# Altium footprint library SYSPCB_03.PCBLIB: 98 footprints (part 4 of 7)
Each footprint in its own frame and in the unit in brackets; x right, y up, seen from the top. Pads: shape width x height; smd on the part's side, far side on the other; paste and mask are expansions set on the pad; w line width, h text height; cw(c..) or ccw(c..) is an arc to the next point about the centre after c.
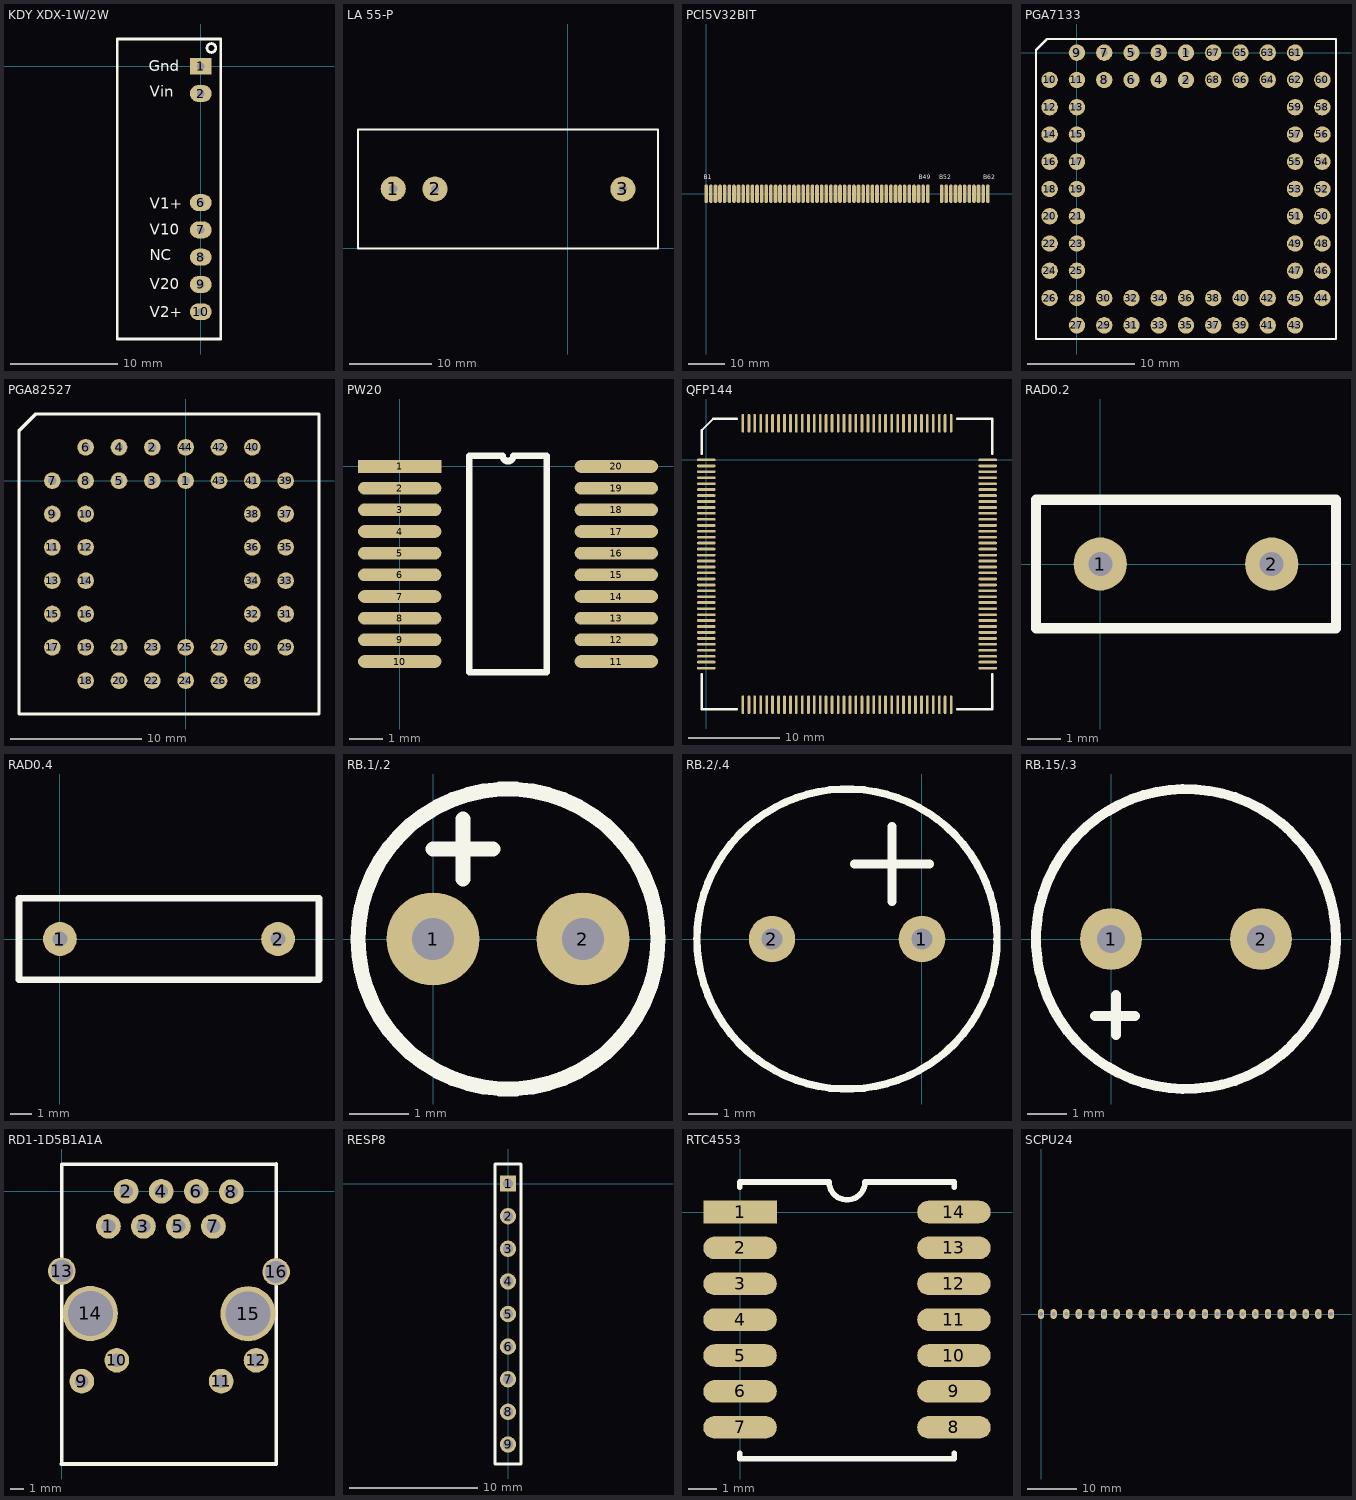
[diagram p3: the footprints below, top view; thin cyan lines are the x and y axes]

## KDY XDX-1W/2W [mil]
pads (7):
  rect 80x62 hole 28: 1(0,0)
  oval 80x62 hole 28: 2(0,-100) 6(0,-500) 7(0,-600) 8(0,-700) 9(0,-800) 10(0,-900)
TopOverlay:
  circle w10: c38.88,67 r16.12
  lines w10: 73,98 73,-1000 -306,-1000 -306,100 73,100
  text "Gnd" at -190,-18 h40
  text "Vin" at -187,-112 h40
  text "V1+" at -187,-522 h40
  text "V10" at -187,-617 h40
  text "NC" at -187,-712 h40
  text "V20" at -187,-817 h40
  text "V2+" at -187,-920 h40

## LA 55-P [mil] "LEM"
height 1070.87
pads (3):
  round 120 hole 40: 1(-835,285.98) 2(-635,285) 3(264.69,285)
TopOverlay:
  lines w10: 433.07,568.9 433.07,0 -1003.94,0 -1003.94,569.88 433.07,569.88

## PCI5V32BIT [mil]
pads (120):
  round 0 smd far side: A1(0,0) A2(50,0) A3(100,0) A4(150,0) A5(200,0) A6(250,0) A7(300,0) A8(350,0) A9(400,0) A10(450,0) A11(500,0) A12(550,0) A13(600,0) A14(650,0) A15(700,0) A16(750,0) A17(800,0) A18(850,0) A19(900,0) A20(950,0) A21(1000,0) A22(1050,0) A23(1100,0) A24(1150,0) A25(1200,0) A26(1250,0) A27(1300,0) A28(1350,0) A29(1400,0) A30(1450,0) A31(1500,0) A32(1550,0) A33(1600,0) A34(1650,0) A35(1700,0) A36(1750,0) A37(1800,0) A38(1850,0) A39(1900,0) A40(1950,0) A41(2000,0) A42(2050,0) A43(2100,0) A44(2150,0) A45(2200,0) A46(2250,0) A47(2300,0) A48(2350,0) A49(2400,0) A52(2550,0) A53(2600,0) A54(2650,0) A55(2700,0) A56(2750,0) A57(2800,0) A58(2850,0) A59(2900,0) A60(2950,0) A61(3000,0) A62(3050,0)
  oval 40x200 smd: B1(0,0) B2(50,0) B3(100,0) B4(150,0) B5(200,0) B6(250,0) B7(300,0) B8(350,0) B9(400,0) B10(450,0) B11(500,0) B12(550,0) B13(600,0) B14(650,0) B15(700,0) B16(750,0) B17(800,0) B18(850,0) B19(900,0) B20(950,0) B21(1000,0) B22(1050,0) B23(1100,0) B24(1150,0) B25(1200,0) B26(1250,0) B27(1300,0) B28(1350,0) B29(1400,0) B30(1450,0) B31(1500,0) B32(1550,0) B33(1600,0) B34(1650,0) B35(1700,0) B36(1750,0) B37(1800,0) B38(1850,0) B39(1900,0) B40(1950,0) B41(2000,0) B42(2050,0) B43(2100,0) B44(2150,0) B45(2200,0) B46(2250,0) B47(2300,0) B48(2350,0) B49(2400,0) B52(2550,0) B53(2600,0) B54(2650,0) B55(2700,0) B56(2750,0) B57(2800,0) B58(2850,0) B59(2900,0) B60(2950,0) B61(3000,0) B62(3050,0)
TopOverlay:
  text "B1" at -25,155 h48
  text "B49" at 2300,155 h48
  text "B52" at 2525,155 h48
  text "B62" at 3000,155 h48
BottomOverlay:
  text "A62" at 3125,155 h48
  text "A52" at 2650,155 h48
  text "A1" at 25,155 h48
  text "A49" at 2425,155 h48

## PGA7133 [mil]
pads (68):
  round 60 hole 25: 1(400,0) 2(400,-100) 3(300,0) 4(300,-100) 5(200,0) 6(200,-100) 7(100,0) 8(100,-100) 9(0,0) 10(-100,-100) 11(0,-100) 12(-100,-200) 13(0,-200) 14(-100,-300) 15(0,-300) 16(-100,-400) 17(0,-400) 18(-100,-500) 19(0,-500) 20(-100,-600) 21(0,-600) 22(-100,-700) 23(0,-700) 24(-100,-800) 25(0,-800) 26(-100,-900) 27(0,-1000) 28(0,-900) 29(100,-1000) 30(100,-900) 31(200,-1000) 32(200,-900) 33(300,-1000) 34(300,-900) 35(400,-1000) 36(400,-900) 37(500,-1000) 38(500,-900) 39(600,-1000) 40(600,-900) 41(700,-1000) 42(700,-900) 43(800,-1000) 44(900,-900) 45(800,-900) 46(900,-800) 47(800,-800) 48(900,-700) 49(800,-700) 50(900,-600) 51(800,-600) 52(900,-500) 53(800,-500) 54(900,-400) 55(800,-400) 56(900,-300) 57(800,-300) 58(900,-200) 59(800,-200) 60(900,-100) 61(800,0) 62(800,-100) 63(700,0) 64(700,-100) 65(600,0) 66(600,-100) 67(500,0) 68(500,-100)
TopOverlay:
  lines w8: -150,-1050 -150,10 -110,50 950,50 950,-1050 -150,-1050

## PGA82527 [mil]
pads (44):
  round 50 hole 25: 1(0,0) 2(-100,100) 3(-100,0) 4(-200,100) 5(-200,0) 6(-300,100) 7(-400,0) 8(-300,0) 9(-400,-100) 10(-300,-100) 11(-400,-200) 12(-300,-200) 13(-400,-300) 14(-300,-300) 15(-400,-400) 16(-300,-400) 17(-400,-500) 18(-300,-600) 19(-300,-500) 20(-200,-600) 21(-200,-500) 22(-100,-600) 23(-100,-500) 24(0,-600) 25(0,-500) 26(100,-600) 27(100,-500) 28(200,-600) 29(300,-500) 30(200,-500) 31(300,-400) 32(200,-400) 33(300,-300) 34(200,-300) 35(300,-200) 36(200,-200) 37(300,-100) 38(200,-100) 39(300,0) 40(200,100) 41(200,0) 42(100,100) 43(100,0) 44(0,100)
TopOverlay:
  lines w10: -500,-700 -500,150 -450,200 400,200 400,-700 -500,-700

## PW20 [mm]
pads (20):
  rect 2.5x0.381 smd: 1(0,0)
  oval 2.5x0.381 smd: 2(0,-0.65) 3(0,-1.3) 4(0,-1.95) 5(0,-2.6) 6(0,-3.25) 7(0,-3.9) 8(0,-4.55) 9(0,-5.2) 10(0,-5.85) 11(6.5,-5.85) 12(6.5,-5.2) 13(6.5,-4.55) 14(6.5,-3.9) 15(6.5,-3.25) 16(6.5,-2.6) 17(6.5,-1.95) 18(6.5,-1.3) 19(6.5,-0.65) 20(6.5,0)
TopOverlay:
  lines w0.2: 2.085,-6.175 2.085,0.325 3.087,0.325 ccw(c3.25,0.325) 3.412,0.325 4.415,0.325 4.415,-6.175 2.085,-6.175

## QFP144 [mil]
pads (144):
  oval 80x12 smd: 1(0,0) 2(0,-26) 3(0,-51) 4(0,-77) 5(0,-103) 6(0,-128) 7(0,-154) 8(0,-179) 9(0,-205) 10(0,-230) 11(0,-256) 12(0,-282) 13(0,-307) 14(0,-333) 15(0,-358) 16(0,-384) 17(0,-410) 18(0,-435) 19(0,-461) 20(0,-486) 21(0,-512) 22(0,-538) 23(0,-563) 24(0,-589) 25(0,-614) 26(0,-640) 27(0,-666) 28(0,-691) 29(0,-717) 30(0,-742) 31(0,-768) 32(0,-793) 33(0,-819) 34(0,-845) 35(0,-870) 36(0,-896) 73(1210,-896) 74(1210,-870) 75(1210,-845) 76(1210,-819) 77(1210,-793) 78(1210,-768) 79(1210,-742) 80(1210,-717) 81(1210,-691) 82(1210,-666) 83(1210,-640) 84(1210,-614) 85(1210,-589) 86(1210,-563) 87(1210,-538) 88(1210,-512) 89(1210,-486) 90(1210,-461) 91(1210,-435) 92(1210,-410) 93(1210,-384) 94(1210,-358) 95(1210,-333) 96(1210,-307) 97(1210,-282) 98(1210,-256) 99(1210,-230) 100(1210,-205) 101(1210,-179) 102(1210,-154) 103(1210,-128) 104(1210,-103) 105(1210,-77) 106(1210,-51) 107(1210,-26) 108(1210,0)
  oval 12x80 smd: 37(157,-1053) 38(183,-1053) 39(208,-1053) 40(234,-1053) 41(260,-1053) 42(285,-1053) 43(311,-1053) 44(336,-1053) 45(362,-1053) 46(387,-1053) 47(413,-1053) 48(439,-1053) 49(464,-1053) 50(490,-1053) 51(515,-1053) 52(541,-1053) 53(567,-1053) 54(592,-1053) 55(618,-1053) 56(643,-1053) 57(669,-1053) 58(695,-1053) 59(720,-1053) 60(746,-1053) 61(771,-1053) 62(797,-1053) 63(823,-1053) 64(848,-1053) 65(874,-1053) 66(899,-1053) 67(925,-1053) 68(950,-1053) 69(976,-1053) 70(1002,-1053) 71(1027,-1053) 72(1053,-1053) 109(1053,157) 110(1027,157) 111(1002,157) 112(976,157) 113(950,157) 114(925,157) 115(899,157) 116(874,157) 117(848,157) 118(823,157) 119(797,157) 120(771,157) 121(746,157) 122(720,157) 123(695,157) 124(669,157) 125(643,157) 126(618,157) 127(592,157) 128(567,157) 129(541,157) 130(515,157) 131(490,157) 132(464,157) 133(439,157) 134(413,157) 135(387,157) 136(362,157) 137(336,157) 138(311,157) 139(285,157) 140(260,157) 141(234,157) 142(208,157) 143(183,157) 144(157,157)
TopOverlay:
  lines w10: -20,-922 -20,-1073 131,-1073 ; -20,26 -20,127 30,177 131,177 ; 1079,-1073 1230,-1073 1230,-922 ; 1079,177 1230,177 1230,26

## RAD0.2 [mil]
pads (2):
  round 62 hole 28: 1(0,0) 2(200,0)
TopOverlay:
  lines w12: -75,-75 -75,75 275,75 275,-75 -75,-75

## RAD0.4 [mil]
pads (2):
  round 62 hole 28: 1(0,0) 2(400,0)
TopOverlay:
  lines w12: -75,-75 475,-75 475,75 -75,75 -75,-75

## RB.1/.2 [mil]
pads (2):
  round 62 hole 28: 1(0,0) 2(100,0)
TopOverlay:
  circle w10: c50,0 r100
  lines w10: 0,60 40,60 ; 20,40 20,80

## RB.2/.4 [mil]
pads (2):
  round 62 hole 28: 1(0,0) 2(-200,0)
TopOverlay:
  circle w10: c-100,0 r200
  lines w12: -90,100 10,100 ; -40,50 -40,150

## RB.15/.3 [mil]
pads (2):
  round 62 hole 28: 1(0,0) 2(150,0)
TopOverlay:
  circle w10: c75,0 r150
  lines w10: -16,-77 24,-77 ; 5,-96 5,-56

## RD1-1D5B1A1A [mm]
pads (16):
  round 1.8 hole 1: 1(3.378,-2.54) 2(4.67,0) 3(5.918,-2.54) 4(7.21,0) 5(8.458,-2.54) 6(9.754,0) 7(10.998,-2.54) 8(12.294,-0.025) 9(1.45,-13.78) 10(3.99,-12.26) 11(11.56,-13.78) 12(14.097,-12.26)
  round 2 hole 1.6: 13(0,-5.791) 16(15.55,-5.842)
  round 4 hole 3.25: 14(2.07,-8.865) 15(13.513,-8.88)
TopOverlay:
  lines w0.254: -0.025,-19.787 4.724,-19.787 15.443,-19.787 ; 0,-19.761 0,1.956 15.55,1.981 15.55,-19.787

## RESP8 [mil]
pads (9):
  rect 50x50 hole 32: 1(0,0)
  round 50 hole 32: 2(0,-100) 3(0,-200) 4(0,-300) 5(0,-400) 6(0,-500) 7(0,-600) 8(0,-700) 9(0,-800)
TopOverlay:
  lines w10: -40,-860 40,-860 40,-840 40,60 -40,60 -40,-840 -40,-860

## RTC4553 [mm]
pads (14):
  rect 2.6x0.8 smd: 1(0,0)
  oval 2.6x0.8 smd: 2(0,-1.27) 3(0,-2.54) 4(0,-3.81) 5(0,-5.08) 6(0,-6.35) 7(0,-7.62) 8(7.569,-7.62) 9(7.569,-6.35) 10(7.569,-5.08) 11(7.569,-3.81) 12(7.569,-2.54) 13(7.569,-1.27) 14(7.569,0)
TopOverlay:
  lines w0.2: -0.013,-8.545 -0.013,-8.735 7.587,-8.735 7.587,-8.545 ; -0.013,0.875 -0.013,1.065 3.152,1.065 ccw(c3.787,1.065) 4.422,1.065 7.587,1.065 7.587,0.875

## SCPU24 [mil]
pads (24):
  oct 50x80 hole 30: 1(0,0)
  oval 50x80 hole 30: 2(100,0) 3(200,0) 4(300,0) 5(400,0) 6(500,0) 7(600,0) 8(700,0) 9(800,0) 10(900,0) 11(1000,0) 12(1100,0) 13(1200,0) 14(1300,0) 15(1400,0) 16(1500,0) 17(1600,0) 18(1700,0) 19(1800,0) 20(1900,0) 21(2000,0) 22(2100,0) 23(2200,0) 24(2300,0)